# Altium footprint library WE-CMS.PcbLib: 3 footprints
Each footprint in its own frame and in the unit in brackets; x right, y up, seen from the top. Pads: shape width x height; smd on the part's side, far side on the other; paste and mask are expansions set on the pad; w line width, h text height; cw(c..) or ccw(c..) is an arc to the next point about the centre after c.
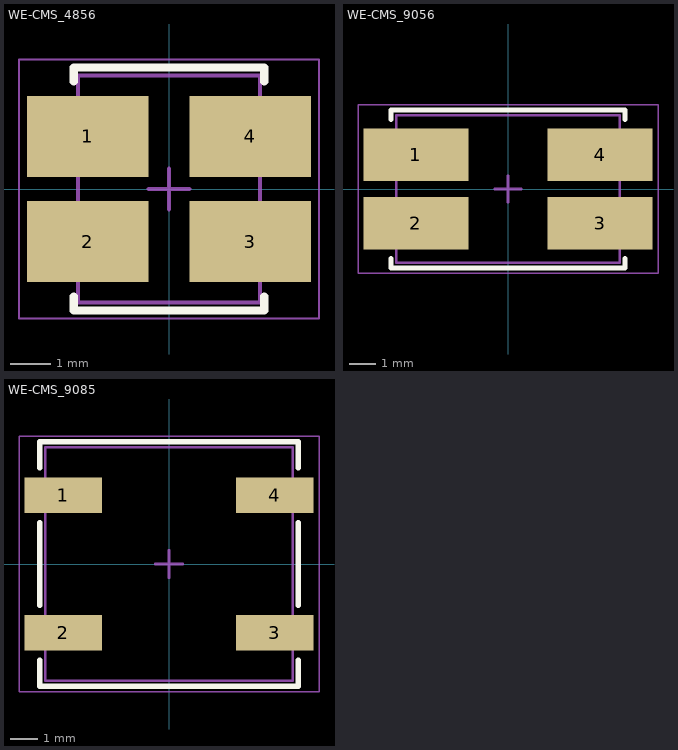
[diagram p0: the footprints below, top view; thin cyan lines are the x and y axes]

## WE-CMS_4856 [mm] "Common Mode SMT Bead, body 4.50x5.60mm"
height 3.2
pads (4):
  rect 3x2 smd: 1(-2,1.3) 2(-2,-1.3) 3(2,-1.3) 4(2,1.3)
Top Overlay:
  lines w0.2: -2.35,-2.65 -2.35,-3 2.35,-3 2.35,-2.65 ; -2.35,2.65 -2.35,3 2.35,3 2.35,2.65
Top Assembly:
  lines w0.1: -2.25,-2.8 -2.25,2.8 2.25,2.8 2.25,-2.8 -2.25,-2.8
Top Designator:
  text ".Designator" at -3.647,-0.357 h1
Top Courtyard:
  lines w0.05: -3.7,-3.2 -3.7,3.2 3.7,3.2 3.7,-3.2 -3.7,-3.2
Top Component Center:
  lines w0.1: -0.5,0 0.5,0 ; 0,-0.5 0,0.5
3D body "7427520 (rev1).stp": height 3.2, standoff 0, extent -2.4,-2.8 2.4,2.8

## WE-CMS_9056 [mm] "Common Mode SMT Bead, body 8.50x5.60mm"
height 3.2
pads (4):
  rect 4x2 smd: 1(-3.5,1.3) 2(-3.5,-1.3) 3(3.5,-1.3) 4(3.5,1.3)
Top Overlay:
  lines w0.2: -4.45,-2.65 -4.45,-3 4.45,-3 4.45,-2.65 ; -4.45,2.65 -4.45,3 4.45,3 4.45,2.65
Top Assembly:
  lines w0.1: -4.25,-2.8 -4.25,2.8 4.25,2.8 4.25,-2.8 -4.25,-2.8
Top Designator:
  text ".Designator" at -3.647,-0.357 h1
Top Courtyard:
  lines w0.05: -5.7,-3.2 5.7,-3.2 5.7,3.2 -5.7,3.2 -5.7,-3.2
Top Component Center:
  lines w0.1: -0.5,0 0.5,0 ; 0,-0.5 0,0.5
3D body "7427521 (rev1).stp": height 3.2, standoff 0, extent -4.45,-2.8 4.45,2.8

## WE-CMS_9085 [mm] "Common Mode SMT Bead, body 9.00x8.50mm"
height 4.8
pads (4):
  rect 2.81x1.28 smd: 1(-3.85,2.5) 2(-3.85,-2.5) 3(3.85,-2.5) 4(3.85,2.5)
Top Overlay:
  lines w0.2: -4.7,-3.5 -4.7,-4.45 4.7,-4.45 4.7,-3.5 ; -4.7,-1.5 -4.7,1.5 ; -4.7,3.5 -4.7,4.45 4.7,4.45 4.7,3.5 ; 4.7,-1.5 4.7,1.5
Top Assembly:
  lines w0.1: -4.5,-4.25 4.5,-4.25 4.5,4.25 -4.5,4.25 -4.5,-4.25
Top Designator:
  text ".Designator" at -3.647,-0.357 h1
Top Courtyard:
  lines w0.05: -5.455,-4.65 -5.455,4.65 5.455,4.65 5.455,-4.65 -5.455,-4.65
Top Component Center:
  lines w0.1: -0.5,0 0.5,0 ; 0,-0.5 0,0.5
3D body "Download_STP_WE-CMS-9085-7427523 (rev1).stp": height 4.63, standoff 0, extent -4.67,-4.25 4.67,4.25